# Altium footprint library SignalCommunications.PCBLIB: 466 footprints (part 19 of 30)
Each footprint in its own frame and in the unit in brackets; x right, y up, seen from the top. Pads: shape width x height; smd on the part's side, far side on the other; paste and mask are expansions set on the pad; w line width, h text height; cw(c..) or ccw(c..) is an arc to the next point about the centre after c.
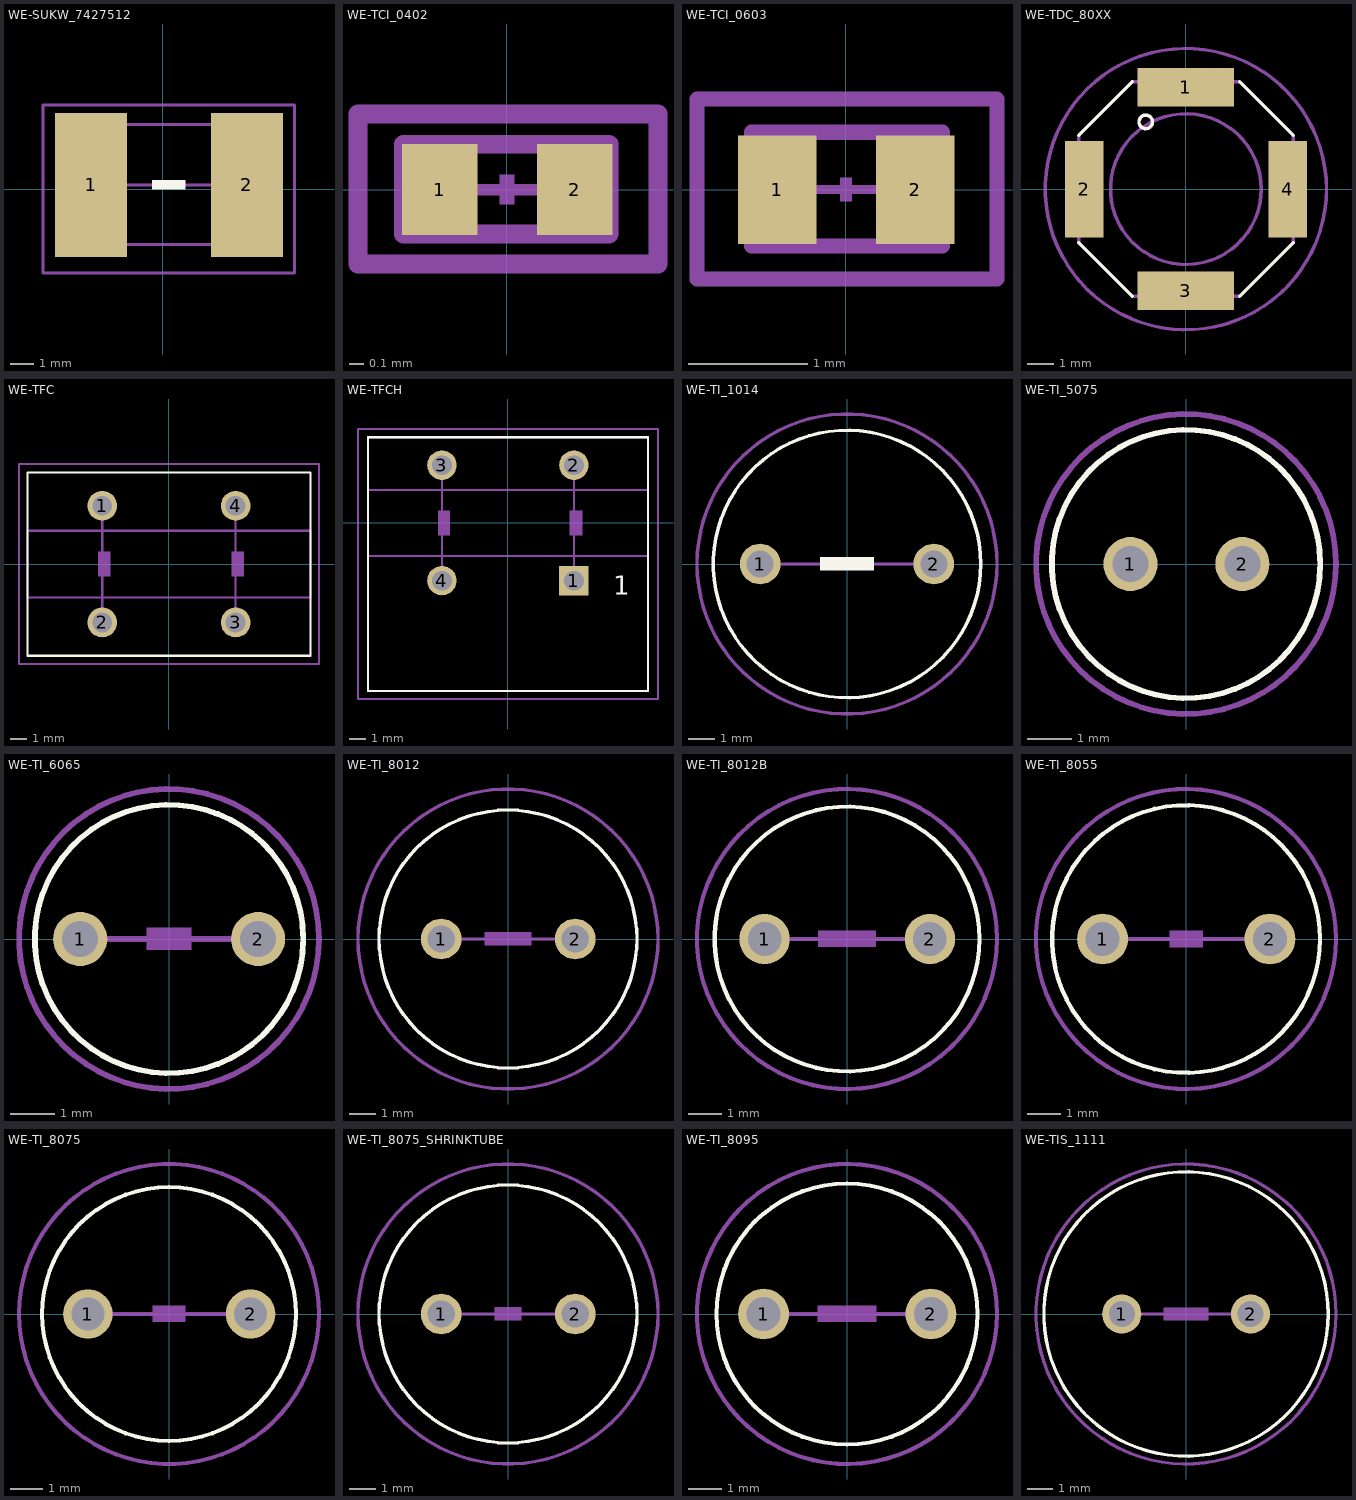
[diagram p18: the footprints below, top view; thin cyan lines are the x and y axes]

## WE-SUKW_7427512 [mil]
pads (2):
  rect 119x237 smd: 1(-117.62,7) 2(139,7)
Top Overlay:
  rectangle: -17.22,-0.98 38,15
Mechanical 16:
  lines w5: -117.62,7 137,7 ; -156.99,-91.54 178,-91.54 178,106 -156.99,106 -156.99,-91.54
Mechanical 27:
  lines w5: -196.85,-137.8 217,-137.8 217,138 -196.85,138 -196.85,-137.8

## WE-TCI_0402 [mil]
pads (2):
  rect 20x24 smd: 1(-17.72,0) 2(18,0)
Mechanical 16:
  region: 2.02,-3.95 2.02,3.98 -1.95,3.98 -1.95,-3.95
  lines w3: -17.72,0 18,0
  lines w5: -27.34,12 -27.34,-11.72 27,-11.72 27,12 -27.06,12
Mechanical 27:
  lines w5: -39.37,-19.68 40,-19.68 40,20 -39.37,20 -39.37,-19.68

## WE-TCI_0603 [mil]
pads (2):
  rect 26x36 smd: 1(-22.64,0) 2(23,0)
Mechanical 16:
  region: 2.02,-3.95 2.02,3.98 -1.95,3.98 -1.95,-3.95
  lines w3: -22.64,0 23,0
  lines w5: -31.13,-18.62 32,-18.62 32,19 -31.13,19 -31.13,-18.62
Mechanical 27:
  lines w5: -49.21,-29.53 50,-29.53 50,30 -49.21,30 -49.21,-29.53

## WE-TDC_80XX [mil]
pads (4):
  rect 142x56 smd: 1(0,150) 3(0,-149.61)
  rect 56x142 smd: 2(-149.61,0) 4(150,0)
Top Overlay:
  circle w5: c-59.06,99 r10
  lines w5: -157.48,-78.74 -78.74,-157.48 ; -157.48,79 -78.74,158 ; 79,-157.48 158,-78.74 ; 79,158 158,79
Mechanical 10:
  circle w5: c0,0 r111
Mechanical 16:
  lines w5: -157.48,-78.74 -157.48,79 ; -78.74,-157.48 79,-157.48 ; -78.74,158 79,158 ; 158,-78.74 158,79
  text "1" at -19.68,99 h77.5
  text "2" at -147.64,-9.84 h77.5
  text "3" at -19.68,-147.64 h77.5
  text "4" at 109,-9.84 h77.5
Mechanical 27:
  circle w5: c0,0 r207

## WE-TFC [mil]
pads (4):
  round 70.5 hole 47: 1(-157.48,138) 2(-157.48,-137.8) 3(158,-137.8) 4(158,138)
Top Overlay:
  lines w5: -334.65,-216.54 335,-216.54 335,217 -334.65,217 -334.65,-216.54
Mechanical 10:
  lines w5: -334.65,-78.74 335,-78.74 335,79 -334.65,79 -334.65,-78.74
Mechanical 16:
  rectangle: -167.32,-29.53 -137.8,30
  rectangle: 148,-29.53 178,30
  lines w5: -157.48,-137.8 -157.48,138 ; 158,-137.8 158,138
Mechanical 27:
  lines w5: -354.33,-236.22 355,-236.22 355,237 -354.33,237 -354.33,-236.22

## WE-TFCH [mil]
pads (4):
  rect 70.5x70.5 hole 47: 1(158,-137.8)
  round 70.5 hole 47: 2(158,138) 3(-157.48,138) 4(-157.48,-137.8)
Top Overlay:
  lines w5: -334.65,-401.57 335,-401.57 335,205 -334.65,205 -334.65,-401.57
  text "1" at 252,-187.5 h77.5
Mechanical 10:
  lines w5: -334.65,-78.74 335,-78.74 335,79 -334.65,79 -334.65,-78.74
Mechanical 16:
  rectangle: -167.32,-29.53 -137.8,30
  rectangle: 148,-29.53 178,30
  lines w5: -157.48,-137.8 -157.48,138 ; 158,-137.8 158,138 ; -334.65,-401.57 -334.65,205 335,205 335,-401.57 -334.65,-401.57
  text "1" at 252,-187.5 h77.5
Mechanical 27:
  lines w5: -358.27,-421.26 359,-421.26 359,225 -358.27,225 -358.27,-421.26

## WE-TI_1014 [mil]
pads (2):
  round 60 hole 40: 1(-127.95,0) 2(128,0)
Top Overlay:
  circle w5: c0,0 r197
  region: 39.76,-9.61 39.76,10.24 -39.61,10.24 -39.61,-9.61
Mechanical 16:
  lines w5: -127.95,0 128,0
Mechanical 27:
  circle w5: c0,0 r221

## WE-TI_5075 [mil]
pads (2):
  round 48 hole 32: 1(-49.21,0) 2(50,0)
Top Overlay:
  circle w5: c0,0 r119
Mechanical 27:
  circle w5: c0,0 r133

## WE-TI_6065 [mil]
pads (2):
  round 48 hole 32: 1(-78.74,0) 2(79,0)
Top Overlay:
  circle w5: c0,0 r119
Mechanical 16:
  region: 19.92,-9.76 19.92,10.08 -19.76,10.08 -19.76,-9.76
  lines w5: -78.74,0 79,0
Mechanical 27:
  circle w5: c0,0 r133

## WE-TI_8012 [mil]
pads (2):
  round 60 hole 40: 1(-98.43,0) 2(99,0)
Top Overlay:
  circle w5: c0,0 r190
Mechanical 16:
  region: 34.8,-9.65 34.8,10.2 -34.65,10.2 -34.65,-9.65
  lines w5: -98.43,0 99,0
Mechanical 27:
  circle w5: c0,0 r221

## WE-TI_8012B [mil]
pads (2):
  round 60 hole 40: 1(-98.43,0) 2(99,0)
Top Overlay:
  circle w5: c0,0 r158
Mechanical 16:
  region: 34.8,-9.65 34.8,10.2 -34.65,10.2 -34.65,-9.65
  lines w5: -98.43,0 99,0
Mechanical 27:
  circle w5: c0,0 r179

## WE-TI_8055 [mil]
pads (2):
  round 60 hole 40: 1(-98.43,0) 2(99,0)
Top Overlay:
  circle w5: c0,0 r158
Mechanical 16:
  region: 19.92,-9.76 19.92,10.08 -19.76,10.08 -19.76,-9.76
  lines w5: -98.43,0 99,0
Mechanical 27:
  circle w5: c0,0 r177

## WE-TI_8075 [mil]
pads (2):
  round 60 hole 40: 1(-98.43,0) 2(99,0)
Top Overlay:
  circle w5: c0,0 r154
Mechanical 16:
  region: 19.92,-9.76 19.92,10.08 -19.76,10.08 -19.76,-9.76
  lines w5: -98.43,0 99,0
Mechanical 27:
  circle w5: c0,0 r182

## WE-TI_8075_SHRINKTUBE [mil]
pads (2):
  round 60 hole 40: 1(-98.43,0) 2(99,0)
Top Overlay:
  circle w5: c0,0 r190
Mechanical 16:
  region: 19.92,-9.76 19.92,10.08 -19.76,10.08 -19.76,-9.76
  lines w5: -98.43,0 99,0
Mechanical 27:
  circle w5: c0,0 r221

## WE-TI_8095 [mil]
pads (2):
  round 60 hole 40: 1(-98.43,0) 2(99,0)
Top Overlay:
  circle w5: c0,0 r154
Mechanical 16:
  region: 34.8,-9.65 34.8,10.2 -34.65,10.2 -34.65,-9.65
  lines w5: -98.43,0 99,0
Mechanical 27:
  circle w5: c0,0 r177

## WE-TIS_1111 [mil]
pads (2):
  round 60 hole 40: 1(-98.43,0) 2(99,0)
Top Overlay:
  circle w5: c0,0 r218
Mechanical 16:
  region: 34.8,-9.65 34.8,10.2 -34.65,10.2 -34.65,-9.65
  lines w5: -98.43,0 99,0
Mechanical 27:
  circle w5: c0,0 r230